# Altium integrated library TJA1080TS_N.IntLib: 1 symbol
Pins are listed as number, name and electrical type; pins without a type are passive.

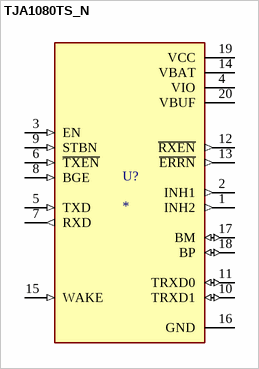
[diagram p0: symbol TJA1080TS_N]

## TJA1080TS_N
designator U?
FlexRay transceiver - Data transfer up to 10 Mbit/s - Usable for 14 V and 42 V powered systems - SSOP20; MF: NXP Semiconductors; MP: TJA1080TS N; SnapEDA_Link: https://www.snapeda.com/parts/TJA1080TS%20N/NXP+Semiconductors/view-part/?ref=snap; Package: None; Value: *; Check_prices: https://www.snapeda.com/parts/TJA1080TS%20N/NXP+Semiconductors/view-part/?ref=eda
footprint SOP65P775X200-20N
pins: 1 INH2 (out), 2 INH1 (out), 3 EN (in), 4 VIO (power), 5 TXD (in), 6 ~{TXEN} (in), 7 RXD (out), 8 BGE (in), 9 STBN (in), 10 TRXD1 (io), 11 TRXD0 (io), 12 ~{RXEN} (out), 13 ~{ERRN} (out), 14 VBAT (power), 15 WAKE (in), 16 GND (power), 17 BM (io), 18 BP (io), 19 VCC (power), 20 VBUF (power)